# Altium integrated library Linear Technology Operational Amplifiers (LT1000).IntLib: 2280 symbols (part 10 of 79)
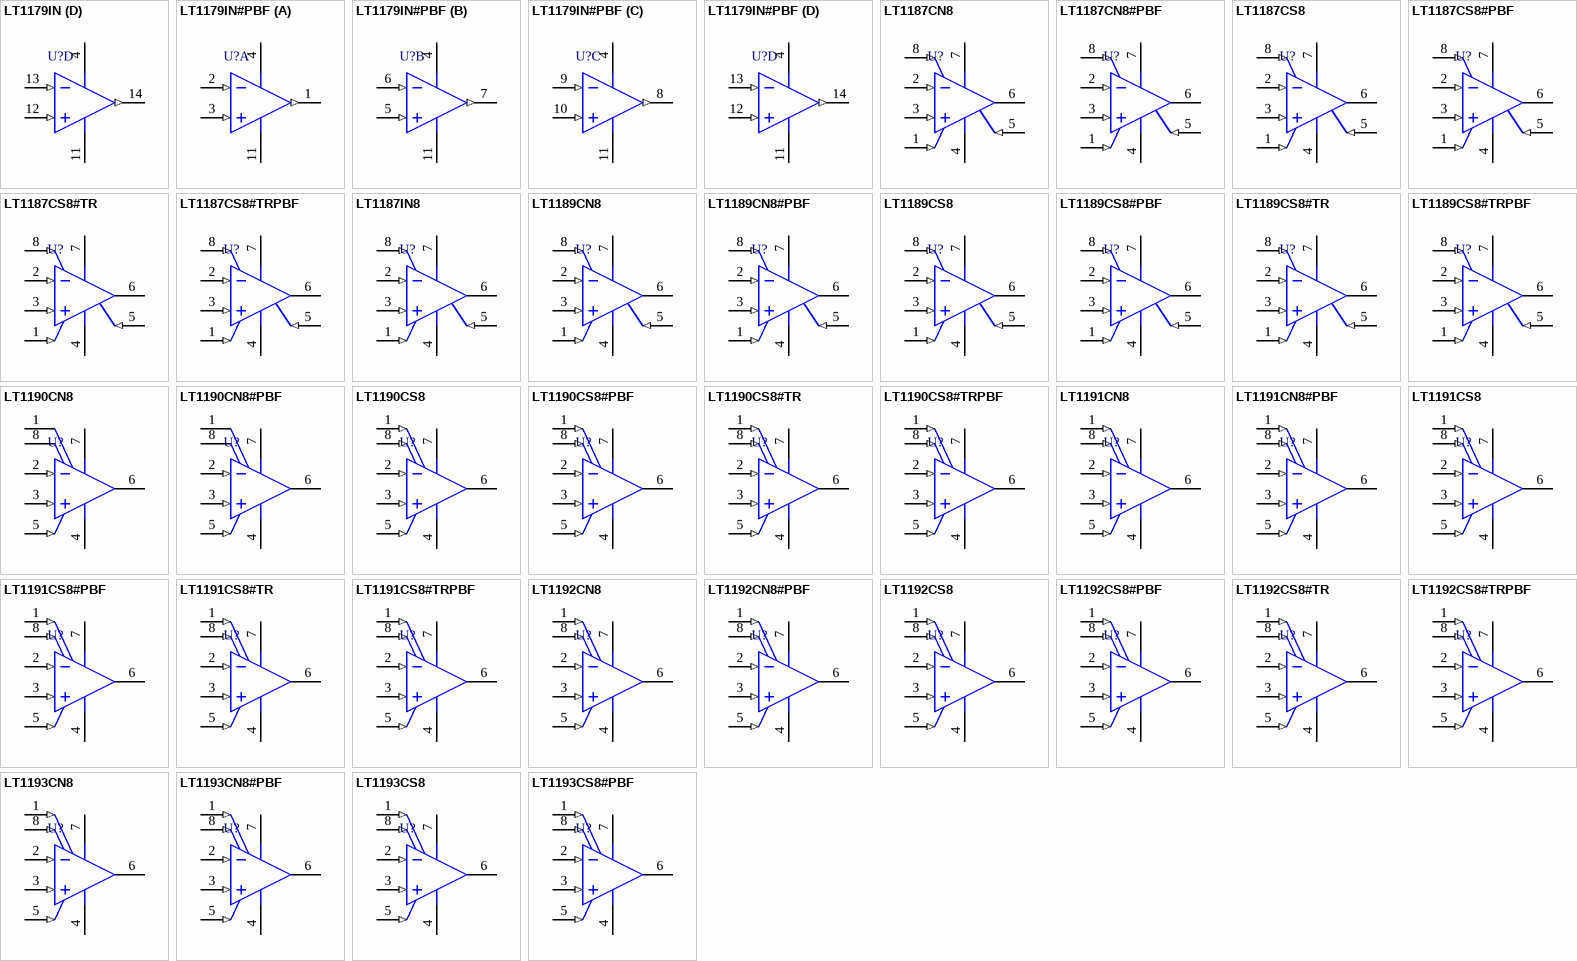
[diagram p114: symbols LT1179IN to LT1193CS8#PBF]

## LT1189CS8#PBF
designator U?
Single Channel, Low Power Video Differential Amplifier, 180 MHz Typical GBW, 220 V/us Typical SR, 4 to 18 V, 8-Pin SOIC (S8-8), Commercial, Pb-Free; Linear Technology Part Number: LT1189; Manufacturer: Linear Technology; PartNumber: LT1189CS8#PBF; Channels (#): 1; GBW (MHz) Typical: 180; Is (mA) Typical: 13; SR (V/us) Typical: 220; Vs Max (V): 18; Vs Min (V): 4; DatasheetVersion: Rev. 0; PackageVersion: Rev G; PackageReference: LT-S8-8; PackageDescription: 8-Pin Plastic Small Outline, Body 4.9 x 3.9 mm, Pitch 1.27 mm; Supplier 1: Digi-Key; Supplier Part Number 1: LT1189CS8#PBF-ND; RoHS: Pb-Free; Type: VIDEO; Vos (mV) Typical: 1; Mounting Technology: Surface Mount; ComponentLink1Description: Manufacturer URL; ComponentLink1URL: http://www.linear.com/; ComponentLink2Description: Datasheet; ComponentLink2URL: http://cds.linear.com/docs/en/datasheet/lt1189.pdf; ComponentLink3Description: Package Specification; ComponentLink3URL: http://cds.linear.com/docs/en/packaging/05081610_G_SO8.pdf
footprint LT-S8-8_N (SOIC, 8-Leads, Body 4.9x3.9mm, Pitch 1.27mm, IPC Medium Density)
footprint LT-S8-8_L (SOIC, 8-Leads, Body 4.9x3.9mm, Pitch 1.27mm, IPC High Density)
footprint LT-S8-8_M (SOIC, 8-Leads, Body 4.9x3.9mm, Pitch 1.27mm, IPC Low Density)
pins: 1 +/REF (in), 2 -IN (in), 3 +IN (in), 4 V- (power), 5 S/D (in), 6 OUT (hiz), 7 V+ (power), 8 -/FB (in)

## LT1189CS8#TR
designator U?
Single Channel, Low Power Video Differential Amplifier, 180 MHz Typical GBW, 220 V/us Typical SR, 4 to 18 V, 8-Pin SOIC (S8-8), Commercial, Reel; Linear Technology Part Number: LT1189; Manufacturer: Linear Technology; PartNumber: LT1189CS8#TR; Channels (#): 1; GBW (MHz) Typical: 180; Is (mA) Typical: 13; SR (V/us) Typical: 220; Vs Max (V): 18; Vs Min (V): 4; DatasheetVersion: Rev. 0; PackageVersion: Rev G; PackageReference: LT-S8-8; PackageDescription: 8-Pin Plastic Small Outline, Body 4.9 x 3.9 mm, Pitch 1.27 mm; Supplier 1: Digi-Key; Supplier Part Number 1: LT1189CS8#TR-ND; Packing: Reel; Type: VIDEO; Vos (mV) Typical: 1; Mounting Technology: Surface Mount; ComponentLink1Description: Manufacturer URL; ComponentLink1URL: http://www.linear.com/; ComponentLink2Description: Datasheet; ComponentLink2URL: http://cds.linear.com/docs/en/datasheet/lt1189.pdf; ComponentLink3Description: Package Specification; ComponentLink3URL: http://cds.linear.com/docs/en/packaging/05081610_G_SO8.pdf
footprint LT-S8-8_N (SOIC, 8-Leads, Body 4.9x3.9mm, Pitch 1.27mm, IPC Medium Density)
footprint LT-S8-8_L (SOIC, 8-Leads, Body 4.9x3.9mm, Pitch 1.27mm, IPC High Density)
footprint LT-S8-8_M (SOIC, 8-Leads, Body 4.9x3.9mm, Pitch 1.27mm, IPC Low Density)
pins: 1 +/REF (in), 2 -IN (in), 3 +IN (in), 4 V- (power), 5 S/D (in), 6 OUT (hiz), 7 V+ (power), 8 -/FB (in)

## LT1189CS8#TRPBF
designator U?
Single Channel, Low Power Video Differential Amplifier, 180 MHz Typical GBW, 220 V/us Typical SR, 4 to 18 V, 8-Pin SOIC (S8-8), Commercial, Pb-Free, Reel; Linear Technology Part Number: LT1189; Manufacturer: Linear Technology; PartNumber: LT1189CS8#TRPBF; Channels (#): 1; GBW (MHz) Typical: 180; Is (mA) Typical: 13; SR (V/us) Typical: 220; Vs Max (V): 18; Vs Min (V): 4; DatasheetVersion: Rev. 0; PackageVersion: Rev G; PackageReference: LT-S8-8; PackageDescription: 8-Pin Plastic Small Outline, Body 4.9 x 3.9 mm, Pitch 1.27 mm; Supplier 1: Digi-Key; Supplier Part Number 1: LT1189CS8#TRPBF-ND; Packing: Reel; RoHS: Pb-Free; Type: VIDEO; Vos (mV) Typical: 1; Mounting Technology: Surface Mount; ComponentLink1Description: Manufacturer URL; ComponentLink1URL: http://www.linear.com/; ComponentLink2Description: Datasheet; ComponentLink2URL: http://cds.linear.com/docs/en/datasheet/lt1189.pdf; ComponentLink3Description: Package Specification; ComponentLink3URL: http://cds.linear.com/docs/en/packaging/05081610_G_SO8.pdf
footprint LT-S8-8_N (SOIC, 8-Leads, Body 4.9x3.9mm, Pitch 1.27mm, IPC Medium Density)
footprint LT-S8-8_L (SOIC, 8-Leads, Body 4.9x3.9mm, Pitch 1.27mm, IPC High Density)
footprint LT-S8-8_M (SOIC, 8-Leads, Body 4.9x3.9mm, Pitch 1.27mm, IPC Low Density)
pins: 1 +/REF (in), 2 -IN (in), 3 +IN (in), 4 V- (power), 5 S/D (in), 6 OUT (hiz), 7 V+ (power), 8 -/FB (in)

## LT1190CN8
designator U?
Single Channel, Color Video Operational Amplifier, +/-5V Supply, 50 MHz Typical GBW, 450 V/us Typical SR, 4 to 18 V, 8-Pin DIP (N8-8), Commercial; Linear Technology Part Number: LT1190; Manufacturer: Linear Technology; PartNumber: LT1190CN8; Channels (#): 1; GBW (MHz) Typical: 50; Is (mA) Typical: 32; SR (V/us) Typical: 450; Vos (mV) Typical: 3; Vs Max (V): 18; Vs Min (V): 4; DatasheetVersion: Rev. A; PackageVersion: Rev I; PackageReference: LT-N8-8; PackageDescription: 8-Lead PDIP, Body 10.16 x 6.48 mm, Pitch 2.54 mm; Supplier 1: Digi-Key; Supplier Part Number 1: LT1190CN8-ND; Type: VFB; Mounting Technology: Surface Mount; ComponentLink1Description: Manufacturer URL; ComponentLink1URL: http://www.linear.com/; ComponentLink2Description: Datasheet; ComponentLink2URL: http://cds.linear.com/docs/en/datasheet/1190fa.pdf; ComponentLink3Description: Package Specification; ComponentLink3URL: http://cds.linear.com/docs/en/packaging/05081510_I_N8.pdf
footprint LT-N8-8 (DIP, 8-Leads, Body 10.16x6.48mm, Pitch 2.54mm)
pins: 1 BAL, 2 -IN (in), 3 +IN (in), 4 V- (power), 5 SHDN (in), 6 OUT (hiz), 7 V+ (power), 8 BAL

## LT1190CN8#PBF
designator U?
Single Channel, Color Video Operational Amplifier, +/-5V Supply, 50 MHz Typical GBW, 450 V/us Typical SR, 4 to 18 V, 8-Pin DIP (N8-8), Commercial, Pb-Free; Linear Technology Part Number: LT1190; Manufacturer: Linear Technology; PartNumber: LT1190CN8#PBF; Channels (#): 1; GBW (MHz) Typical: 50; Is (mA) Typical: 32; SR (V/us) Typical: 450; Vos (mV) Typical: 3; Vs Max (V): 18; Vs Min (V): 4; DatasheetVersion: Rev. A; PackageVersion: Rev I; PackageReference: LT-N8-8; PackageDescription: 8-Lead PDIP, Body 10.16 x 6.48 mm, Pitch 2.54 mm; Supplier 1: Digi-Key; Supplier Part Number 1: LT1190CN8#PBF-ND; Supplier 2: Newark; Supplier Part Number 2: 57M2612; RoHS: Pb-Free; Type: VFB; Mounting Technology: Through Hole; ComponentLink1Description: Manufacturer URL; ComponentLink1URL: http://www.linear.com/; ComponentLink2Description: Datasheet; ComponentLink2URL: http://cds.linear.com/docs/en/datasheet/1190fa.pdf; ComponentLink3Description: Package Specification; ComponentLink3URL: http://cds.linear.com/docs/en/packaging/05081510_I_N8.pdf
footprint LT-N8-8 (DIP, 8-Leads, Body 10.16x6.48mm, Pitch 2.54mm)
pins: 1 BAL, 2 -IN (in), 3 +IN (in), 4 V- (power), 5 SHDN (in), 6 OUT (hiz), 7 V+ (power), 8 BAL

## LT1190CS8
designator U?
Single Channel, Color Video Operational Amplifier, +/-5V Supply, 50 MHz Typical GBW, 450 V/us Typical SR, 4 to 18 V, 8-Pin SOIC (S8-8), Commercial; Linear Technology Part Number: LT1190; Manufacturer: Linear Technology; PartNumber: LT1190CS8; Channels (#): 1; GBW (MHz) Typical: 50; Is (mA) Typical: 32; SR (V/us) Typical: 450; Vos (mV) Typical: 3; Vs Max (V): 18; Vs Min (V): 4; DatasheetVersion: Rev. A; PackageVersion: Rev G; PackageReference: LT-S8-8; PackageDescription: 8-Pin Plastic Small Outline, Body 4.9 x 3.9 mm, Pitch 1.27 mm; Supplier 1: Digi-Key; Supplier Part Number 1: LT1190CS8-ND; Type: VFB; Mounting Technology: Surface Mount; ComponentLink1Description: Manufacturer URL; ComponentLink1URL: http://www.linear.com/; ComponentLink2Description: Datasheet; ComponentLink2URL: http://cds.linear.com/docs/en/datasheet/1190fa.pdf; ComponentLink3Description: Package Specification; ComponentLink3URL: http://cds.linear.com/docs/en/packaging/05081610_G_SO8.pdf
footprint LT-S8-8_N (SOIC, 8-Leads, Body 4.9x3.9mm, Pitch 1.27mm, IPC Medium Density)
footprint LT-S8-8_L (SOIC, 8-Leads, Body 4.9x3.9mm, Pitch 1.27mm, IPC High Density)
footprint LT-S8-8_M (SOIC, 8-Leads, Body 4.9x3.9mm, Pitch 1.27mm, IPC Low Density)
pins: 1 BAL (in), 2 -IN (in), 3 +IN (in), 4 V- (power), 5 SHDN (in), 6 OUT (hiz), 7 V+ (power), 8 BAL (in)

## LT1190CS8#PBF
designator U?
Single Channel, Color Video Operational Amplifier, +/-5V Supply, 50 MHz Typical GBW, 450 V/us Typical SR, 4 to 18 V, 8-Pin SOIC (S8-8), Commercial, Pb-Free; Linear Technology Part Number: LT1190; Manufacturer: Linear Technology; PartNumber: LT1190CS8#PBF; Channels (#): 1; GBW (MHz) Typical: 50; Is (mA) Typical: 32; SR (V/us) Typical: 450; Vos (mV) Typical: 3; Vs Max (V): 18; Vs Min (V): 4; DatasheetVersion: Rev. A; PackageVersion: Rev G; PackageReference: LT-S8-8; PackageDescription: 8-Pin Plastic Small Outline, Body 4.9 x 3.9 mm, Pitch 1.27 mm; Supplier 1: Digi-Key; Supplier Part Number 1: LT1190CS8#PBF-ND; Supplier 2: Farnell; Supplier Part Number 2: 1330593; Supplier 3: Newark; Supplier Part Number 3: 57M2614; RoHS: Pb-Free; Type: VFB; Mounting Technology: Surface Mount; ComponentLink1Description: Manufacturer URL; ComponentLink1URL: http://www.linear.com/; ComponentLink2Description: Datasheet; ComponentLink2URL: http://cds.linear.com/docs/en/datasheet/1190fa.pdf; ComponentLink3Description: Package Specification; ComponentLink3URL: http://cds.linear.com/docs/en/packaging/05081610_G_SO8.pdf
footprint LT-S8-8_N (SOIC, 8-Leads, Body 4.9x3.9mm, Pitch 1.27mm, IPC Medium Density)
footprint LT-S8-8_L (SOIC, 8-Leads, Body 4.9x3.9mm, Pitch 1.27mm, IPC High Density)
footprint LT-S8-8_M (SOIC, 8-Leads, Body 4.9x3.9mm, Pitch 1.27mm, IPC Low Density)
pins: 1 BAL (in), 2 -IN (in), 3 +IN (in), 4 V- (power), 5 SHDN (in), 6 OUT (hiz), 7 V+ (power), 8 BAL (in)

## LT1190CS8#TR
designator U?
Single Channel, Color Video Operational Amplifier, +/-5V Supply, 50 MHz Typical GBW, 450 V/us Typical SR, 4 to 18 V, 8-Pin SOIC (S8-8), Commercial, Reel; Linear Technology Part Number: LT1190; Manufacturer: Linear Technology; PartNumber: LT1190CS8#TR; Channels (#): 1; GBW (MHz) Typical: 50; Is (mA) Typical: 32; SR (V/us) Typical: 450; Vos (mV) Typical: 3; Vs Max (V): 18; Vs Min (V): 4; DatasheetVersion: Rev. A; PackageVersion: Rev G; PackageReference: LT-S8-8; PackageDescription: 8-Pin Plastic Small Outline, Body 4.9 x 3.9 mm, Pitch 1.27 mm; Supplier 1: Digi-Key; Supplier Part Number 1: LT1190CS8#TR-ND; Packing: Reel; Type: VFB; Mounting Technology: Surface Mount; ComponentLink1Description: Manufacturer URL; ComponentLink1URL: http://www.linear.com/; ComponentLink2Description: Datasheet; ComponentLink2URL: http://cds.linear.com/docs/en/datasheet/1190fa.pdf; ComponentLink3Description: Package Specification; ComponentLink3URL: http://cds.linear.com/docs/en/packaging/05081610_G_SO8.pdf
footprint LT-S8-8_N (SOIC, 8-Leads, Body 4.9x3.9mm, Pitch 1.27mm, IPC Medium Density)
footprint LT-S8-8_L (SOIC, 8-Leads, Body 4.9x3.9mm, Pitch 1.27mm, IPC High Density)
footprint LT-S8-8_M (SOIC, 8-Leads, Body 4.9x3.9mm, Pitch 1.27mm, IPC Low Density)
pins: 1 BAL (in), 2 -IN (in), 3 +IN (in), 4 V- (power), 5 SHDN (in), 6 OUT (hiz), 7 V+ (power), 8 BAL (in)

## LT1190CS8#TRPBF
designator U?
Single Channel, Color Video Operational Amplifier, +/-5V Supply, 50 MHz Typical GBW, 450 V/us Typical SR, 4 to 18 V, 8-Pin SOIC (S8-8), Commercial, Pb-Free, Reel; Linear Technology Part Number: LT1190; Manufacturer: Linear Technology; PartNumber: LT1190CS8#TRPBF; Channels (#): 1; GBW (MHz) Typical: 50; Is (mA) Typical: 32; SR (V/us) Typical: 450; Vos (mV) Typical: 3; Vs Max (V): 18; Vs Min (V): 4; DatasheetVersion: Rev. A; PackageVersion: Rev G; PackageReference: LT-S8-8; PackageDescription: 8-Pin Plastic Small Outline, Body 4.9 x 3.9 mm, Pitch 1.27 mm; Supplier 1: Digi-Key; Supplier Part Number 1: LT1190CS8#TRPBF-ND; Packing: Reel; RoHS: Pb-Free; Type: VFB; Mounting Technology: Surface Mount; ComponentLink1Description: Manufacturer URL; ComponentLink1URL: http://www.linear.com/; ComponentLink2Description: Datasheet; ComponentLink2URL: http://cds.linear.com/docs/en/datasheet/1190fa.pdf; ComponentLink3Description: Package Specification; ComponentLink3URL: http://cds.linear.com/docs/en/packaging/05081610_G_SO8.pdf
footprint LT-S8-8_N (SOIC, 8-Leads, Body 4.9x3.9mm, Pitch 1.27mm, IPC Medium Density)
footprint LT-S8-8_L (SOIC, 8-Leads, Body 4.9x3.9mm, Pitch 1.27mm, IPC High Density)
footprint LT-S8-8_M (SOIC, 8-Leads, Body 4.9x3.9mm, Pitch 1.27mm, IPC Low Density)
pins: 1 BAL (in), 2 -IN (in), 3 +IN (in), 4 V- (power), 5 SHDN (in), 6 OUT (hiz), 7 V+ (power), 8 BAL (in)

## LT1191CN8
designator U?
Single Channel, Color Video Operational Amplifier, +/-5V Supply, 90 MHz Typical GBW, 450 V/us Typical SR, 4 to 18 V, 8-Pin DIP (N8-8), Commercial; Linear Technology Part Number: LT1191; Manufacturer: Linear Technology; PartNumber: LT1191CN8; Channels (#): 1; GBW (MHz) Typical: 90; Is (mA) Typical: 32; SR (V/us) Typical: 450; Vs Max (V): 18; Vs Min (V): 4; DatasheetVersion: Rev. A; PackageVersion: Rev I; PackageReference: LT-N8-8; PackageDescription: 8-Lead PDIP, Body 10.16 x 6.48 mm, Pitch 2.54 mm; Supplier 1: Digi-Key; Supplier Part Number 1: LT1191CN8-ND; Type: VFB; Vos (mV) Typical: 1; Mounting Technology: Surface Mount; ComponentLink1Description: Manufacturer URL; ComponentLink1URL: http://www.linear.com/; ComponentLink2Description: Datasheet; ComponentLink2URL: http://cds.linear.com/docs/en/datasheet/1191fa.pdf; ComponentLink3Description: Package Specification; ComponentLink3URL: http://cds.linear.com/docs/en/packaging/05081510_I_N8.pdf
footprint LT-N8-8 (DIP, 8-Leads, Body 10.16x6.48mm, Pitch 2.54mm)
pins: 1 BAL (in), 2 -IN (in), 3 +IN (in), 4 V- (power), 5 SHDN (in), 6 OUT (hiz), 7 V+ (power), 8 BAL (in)

## LT1191CN8#PBF
designator U?
Single Channel, Color Video Operational Amplifier, +/-5V Supply, 90 MHz Typical GBW, 450 V/us Typical SR, 4 to 18 V, 8-Pin DIP (N8-8), Commercial, Pb-Free; Linear Technology Part Number: LT1191; Manufacturer: Linear Technology; PartNumber: LT1191CN8#PBF; Channels (#): 1; GBW (MHz) Typical: 90; Is (mA) Typical: 32; SR (V/us) Typical: 450; Vs Max (V): 18; Vs Min (V): 4; DatasheetVersion: Rev. A; PackageVersion: Rev I; PackageReference: LT-N8-8; PackageDescription: 8-Lead PDIP, Body 10.16 x 6.48 mm, Pitch 2.54 mm; Supplier 1: Digi-Key; Supplier Part Number 1: LT1191CN8#PBF-ND; RoHS: Pb-Free; Type: VFB; Vos (mV) Typical: 1; Mounting Technology: Through Hole; ComponentLink1Description: Manufacturer URL; ComponentLink1URL: http://www.linear.com/; ComponentLink2Description: Datasheet; ComponentLink2URL: http://cds.linear.com/docs/en/datasheet/1191fa.pdf; ComponentLink3Description: Package Specification; ComponentLink3URL: http://cds.linear.com/docs/en/packaging/05081510_I_N8.pdf
footprint LT-N8-8 (DIP, 8-Leads, Body 10.16x6.48mm, Pitch 2.54mm)
pins: 1 BAL (in), 2 -IN (in), 3 +IN (in), 4 V- (power), 5 SHDN (in), 6 OUT (hiz), 7 V+ (power), 8 BAL (in)

## LT1191CS8
designator U?
Single Channel, Color Video Operational Amplifier, +/-5V Supply, 90 MHz Typical GBW, 450 V/us Typical SR, 4 to 18 V, 8-Pin SOIC (S8-8), Commercial; Linear Technology Part Number: LT1191; Manufacturer: Linear Technology; PartNumber: LT1191CS8; Channels (#): 1; GBW (MHz) Typical: 90; Is (mA) Typical: 32; SR (V/us) Typical: 450; Vs Max (V): 18; Vs Min (V): 4; DatasheetVersion: Rev. A; PackageVersion: Rev G; PackageReference: LT-S8-8; PackageDescription: 8-Pin Plastic Small Outline, Body 4.9 x 3.9 mm, Pitch 1.27 mm; Supplier 1: Digi-Key; Supplier Part Number 1: LT1191CS8-ND; Type: VFB; Vos (mV) Typical: 1; Mounting Technology: Surface Mount; ComponentLink1Description: Manufacturer URL; ComponentLink1URL: http://www.linear.com/; ComponentLink2Description: Datasheet; ComponentLink2URL: http://cds.linear.com/docs/en/datasheet/1191fa.pdf; ComponentLink3Description: Package Specification; ComponentLink3URL: http://cds.linear.com/docs/en/packaging/05081610_G_SO8.pdf
footprint LT-S8-8_N (SOIC, 8-Leads, Body 4.9x3.9mm, Pitch 1.27mm, IPC Medium Density)
footprint LT-S8-8_L (SOIC, 8-Leads, Body 4.9x3.9mm, Pitch 1.27mm, IPC High Density)
footprint LT-S8-8_M (SOIC, 8-Leads, Body 4.9x3.9mm, Pitch 1.27mm, IPC Low Density)
pins: 1 BAL (in), 2 -IN (in), 3 +IN (in), 4 V- (power), 5 SHDN (in), 6 OUT (hiz), 7 V+ (power), 8 BAL (in)

## LT1191CS8#PBF
designator U?
Single Channel, Color Video Operational Amplifier, +/-5V Supply, 90 MHz Typical GBW, 450 V/us Typical SR, 4 to 18 V, 8-Pin SOIC (S8-8), Commercial, Pb-Free; Linear Technology Part Number: LT1191; Manufacturer: Linear Technology; PartNumber: LT1191CS8#PBF; Channels (#): 1; GBW (MHz) Typical: 90; Is (mA) Typical: 32; SR (V/us) Typical: 450; Vs Max (V): 18; Vs Min (V): 4; DatasheetVersion: Rev. A; PackageVersion: Rev G; PackageReference: LT-S8-8; PackageDescription: 8-Pin Plastic Small Outline, Body 4.9 x 3.9 mm, Pitch 1.27 mm; Supplier 1: Digi-Key; Supplier Part Number 1: LT1191CS8#PBF-ND; Supplier 2: Farnell; Supplier Part Number 2: 1330594; Supplier 3: Newark; Supplier Part Number 3: 57M2620; RoHS: Pb-Free; Type: VFB; Vos (mV) Typical: 1; Mounting Technology: Surface Mount; ComponentLink1Description: Manufacturer URL; ComponentLink1URL: http://www.linear.com/; ComponentLink2Description: Datasheet; ComponentLink2URL: http://cds.linear.com/docs/en/datasheet/1191fa.pdf; ComponentLink3Description: Package Specification; ComponentLink3URL: http://cds.linear.com/docs/en/packaging/05081610_G_SO8.pdf
footprint LT-S8-8_N (SOIC, 8-Leads, Body 4.9x3.9mm, Pitch 1.27mm, IPC Medium Density)
footprint LT-S8-8_L (SOIC, 8-Leads, Body 4.9x3.9mm, Pitch 1.27mm, IPC High Density)
footprint LT-S8-8_M (SOIC, 8-Leads, Body 4.9x3.9mm, Pitch 1.27mm, IPC Low Density)
pins: 1 BAL (in), 2 -IN (in), 3 +IN (in), 4 V- (power), 5 SHDN (in), 6 OUT (hiz), 7 V+ (power), 8 BAL (in)

## LT1191CS8#TR
designator U?
Single Channel, Color Video Operational Amplifier, +/-5V Supply, 90 MHz Typical GBW, 450 V/us Typical SR, 4 to 18 V, 8-Pin SOIC (S8-8), Commercial, Reel; Linear Technology Part Number: LT1191; Manufacturer: Linear Technology; PartNumber: LT1191CS8#TR; Channels (#): 1; GBW (MHz) Typical: 90; Is (mA) Typical: 32; SR (V/us) Typical: 450; Vs Max (V): 18; Vs Min (V): 4; DatasheetVersion: Rev. A; PackageVersion: Rev G; PackageReference: LT-S8-8; PackageDescription: 8-Pin Plastic Small Outline, Body 4.9 x 3.9 mm, Pitch 1.27 mm; Supplier 1: Digi-Key; Supplier Part Number 1: LT1191CS8#TR-ND; Packing: Reel; Type: VFB; Vos (mV) Typical: 1; Mounting Technology: Surface Mount; ComponentLink1Description: Manufacturer URL; ComponentLink1URL: http://www.linear.com/; ComponentLink2Description: Datasheet; ComponentLink2URL: http://cds.linear.com/docs/en/datasheet/1191fa.pdf; ComponentLink3Description: Package Specification; ComponentLink3URL: http://cds.linear.com/docs/en/packaging/05081610_G_SO8.pdf
footprint LT-S8-8_N (SOIC, 8-Leads, Body 4.9x3.9mm, Pitch 1.27mm, IPC Medium Density)
footprint LT-S8-8_L (SOIC, 8-Leads, Body 4.9x3.9mm, Pitch 1.27mm, IPC High Density)
footprint LT-S8-8_M (SOIC, 8-Leads, Body 4.9x3.9mm, Pitch 1.27mm, IPC Low Density)
pins: 1 BAL (in), 2 -IN (in), 3 +IN (in), 4 V- (power), 5 SHDN (in), 6 OUT (hiz), 7 V+ (power), 8 BAL (in)

## LT1191CS8#TRPBF
designator U?
Single Channel, Color Video Operational Amplifier, +/-5V Supply, 90 MHz Typical GBW, 450 V/us Typical SR, 4 to 18 V, 8-Pin SOIC (S8-8), Commercial, Pb-Free, Reel; Linear Technology Part Number: LT1191; Manufacturer: Linear Technology; PartNumber: LT1191CS8#TRPBF; Channels (#): 1; GBW (MHz) Typical: 90; Is (mA) Typical: 32; SR (V/us) Typical: 450; Vs Max (V): 18; Vs Min (V): 4; DatasheetVersion: Rev. A; PackageVersion: Rev G; PackageReference: LT-S8-8; PackageDescription: 8-Pin Plastic Small Outline, Body 4.9 x 3.9 mm, Pitch 1.27 mm; Supplier 1: Digi-Key; Supplier Part Number 1: LT1191CS8#TRPBF-ND; Packing: Reel; RoHS: Pb-Free; Type: VFB; Vos (mV) Typical: 1; Mounting Technology: Surface Mount; ComponentLink1Description: Manufacturer URL; ComponentLink1URL: http://www.linear.com/; ComponentLink2Description: Datasheet; ComponentLink2URL: http://cds.linear.com/docs/en/datasheet/1191fa.pdf; ComponentLink3Description: Package Specification; ComponentLink3URL: http://cds.linear.com/docs/en/packaging/05081610_G_SO8.pdf
footprint LT-S8-8_N (SOIC, 8-Leads, Body 4.9x3.9mm, Pitch 1.27mm, IPC Medium Density)
footprint LT-S8-8_L (SOIC, 8-Leads, Body 4.9x3.9mm, Pitch 1.27mm, IPC High Density)
footprint LT-S8-8_M (SOIC, 8-Leads, Body 4.9x3.9mm, Pitch 1.27mm, IPC Low Density)
pins: 1 BAL (in), 2 -IN (in), 3 +IN (in), 4 V- (power), 5 SHDN (in), 6 OUT (hiz), 7 V+ (power), 8 BAL (in)

## LT1192CN8
designator U?
Single Channel, Color Video Operational Amplifier, +/-5V Supply, 350 MHz Typical GBW, 450 V/us Typical SR, 4 to 18 V, 8-Pin DIP (N8-8), Commercial; Linear Technology Part Number: LT1192; Manufacturer: Linear Technology; PartNumber: LT1192CN8; Channels (#): 1; GBW (MHz) Typical: 350; Is (mA) Typical: 32; SR (V/us) Typical: 450; Vos (mV) Typical: 0.2; Vs Max (V): 18; Vs Min (V): 4; DatasheetVersion: Rev. A; PackageVersion: Rev I; PackageReference: LT-N8-8; PackageDescription: 8-Lead PDIP, Body 10.16 x 6.48 mm, Pitch 2.54 mm; Supplier 1: Digi-Key; Supplier Part Number 1: LT1192CN8-ND; Type: VFB; Mounting Technology: Surface Mount; ComponentLink1Description: Manufacturer URL; ComponentLink1URL: http://www.linear.com/; ComponentLink2Description: Datasheet; ComponentLink2URL: http://cds.linear.com/docs/en/datasheet/1192fa.pdf; ComponentLink3Description: Package Specification; ComponentLink3URL: http://cds.linear.com/docs/en/packaging/05081510_I_N8.pdf
footprint LT-N8-8 (DIP, 8-Leads, Body 10.16x6.48mm, Pitch 2.54mm)
pins: 1 BAL (in), 2 -IN (in), 3 +IN (in), 4 V- (power), 5 SHDN (in), 6 OUT (hiz), 7 V+ (power), 8 BAL (in)

## LT1192CN8#PBF
designator U?
Single Channel, Color Video Operational Amplifier, +/-5V Supply, 350 MHz Typical GBW, 450 V/us Typical SR, 4 to 18 V, 8-Pin DIP (N8-8), Commercial, Pb-Free; Linear Technology Part Number: LT1192; Manufacturer: Linear Technology; PartNumber: LT1192CN8#PBF; Channels (#): 1; GBW (MHz) Typical: 350; Is (mA) Typical: 32; SR (V/us) Typical: 450; Vos (mV) Typical: 0.2; Vs Max (V): 18; Vs Min (V): 4; DatasheetVersion: Rev. A; PackageVersion: Rev I; PackageReference: LT-N8-8; PackageDescription: 8-Lead PDIP, Body 10.16 x 6.48 mm, Pitch 2.54 mm; Supplier 1: Digi-Key; Supplier Part Number 1: LT1192CN8#PBF-ND; RoHS: Pb-Free; Type: VFB; Mounting Technology: Through Hole; ComponentLink1Description: Manufacturer URL; ComponentLink1URL: http://www.linear.com/; ComponentLink2Description: Datasheet; ComponentLink2URL: http://cds.linear.com/docs/en/datasheet/1192fa.pdf; ComponentLink3Description: Package Specification; ComponentLink3URL: http://cds.linear.com/docs/en/packaging/05081510_I_N8.pdf
footprint LT-N8-8 (DIP, 8-Leads, Body 10.16x6.48mm, Pitch 2.54mm)
pins: 1 BAL (in), 2 -IN (in), 3 +IN (in), 4 V- (power), 5 SHDN (in), 6 OUT (hiz), 7 V+ (power), 8 BAL (in)

## LT1192CS8
designator U?
Single Channel, Color Video Operational Amplifier, +/-5V Supply, 350 MHz Typical GBW, 450 V/us Typical SR, 4 to 18 V, 8-Pin SOIC (S8-8), Commercial; Linear Technology Part Number: LT1192; Manufacturer: Linear Technology; PartNumber: LT1192CS8; Channels (#): 1; GBW (MHz) Typical: 350; Is (mA) Typical: 32; SR (V/us) Typical: 450; Vos (mV) Typical: 0.2; Vs Max (V): 18; Vs Min (V): 4; DatasheetVersion: Rev. A; PackageVersion: Rev G; PackageReference: LT-S8-8; PackageDescription: 8-Pin Plastic Small Outline, Body 4.9 x 3.9 mm, Pitch 1.27 mm; Supplier 1: Digi-Key; Supplier Part Number 1: LT1192CS8-ND; Type: VFB; Mounting Technology: Surface Mount; ComponentLink1Description: Manufacturer URL; ComponentLink1URL: http://www.linear.com/; ComponentLink2Description: Datasheet; ComponentLink2URL: http://cds.linear.com/docs/en/datasheet/1192fa.pdf; ComponentLink3Description: Package Specification; ComponentLink3URL: http://cds.linear.com/docs/en/packaging/05081610_G_SO8.pdf
footprint LT-S8-8_N (SOIC, 8-Leads, Body 4.9x3.9mm, Pitch 1.27mm, IPC Medium Density)
footprint LT-S8-8_L (SOIC, 8-Leads, Body 4.9x3.9mm, Pitch 1.27mm, IPC High Density)
footprint LT-S8-8_M (SOIC, 8-Leads, Body 4.9x3.9mm, Pitch 1.27mm, IPC Low Density)
pins: 1 BAL (in), 2 -IN (in), 3 +IN (in), 4 V- (power), 5 SHDN (in), 6 OUT (hiz), 7 V+ (power), 8 BAL (in)

## LT1192CS8#PBF
designator U?
Single Channel, Color Video Operational Amplifier, +/-5V Supply, 350 MHz Typical GBW, 450 V/us Typical SR, 4 to 18 V, 8-Pin SOIC (S8-8), Commercial, Pb-Free; Linear Technology Part Number: LT1192; Manufacturer: Linear Technology; PartNumber: LT1192CS8#PBF; Channels (#): 1; GBW (MHz) Typical: 350; Is (mA) Typical: 32; SR (V/us) Typical: 450; Vos (mV) Typical: 0.2; Vs Max (V): 18; Vs Min (V): 4; DatasheetVersion: Rev. A; PackageVersion: Rev G; PackageReference: LT-S8-8; PackageDescription: 8-Pin Plastic Small Outline, Body 4.9 x 3.9 mm, Pitch 1.27 mm; Supplier 1: Digi-Key; Supplier Part Number 1: LT1192CS8#PBF-ND; Supplier 2: Newark; Supplier Part Number 2: 57M2626; RoHS: Pb-Free; Type: VFB; Mounting Technology: Surface Mount; ComponentLink1Description: Manufacturer URL; ComponentLink1URL: http://www.linear.com/; ComponentLink2Description: Datasheet; ComponentLink2URL: http://cds.linear.com/docs/en/datasheet/1192fa.pdf; ComponentLink3Description: Package Specification; ComponentLink3URL: http://cds.linear.com/docs/en/packaging/05081610_G_SO8.pdf
footprint LT-S8-8_N (SOIC, 8-Leads, Body 4.9x3.9mm, Pitch 1.27mm, IPC Medium Density)
footprint LT-S8-8_L (SOIC, 8-Leads, Body 4.9x3.9mm, Pitch 1.27mm, IPC High Density)
footprint LT-S8-8_M (SOIC, 8-Leads, Body 4.9x3.9mm, Pitch 1.27mm, IPC Low Density)
pins: 1 BAL (in), 2 -IN (in), 3 +IN (in), 4 V- (power), 5 SHDN (in), 6 OUT (hiz), 7 V+ (power), 8 BAL (in)

## LT1192CS8#TR
designator U?
Single Channel, Color Video Operational Amplifier, +/-5V Supply, 350 MHz Typical GBW, 450 V/us Typical SR, 4 to 18 V, 8-Pin SOIC (S8-8), Commercial, Reel; Linear Technology Part Number: LT1192; Manufacturer: Linear Technology; PartNumber: LT1192CS8#TR; Channels (#): 1; GBW (MHz) Typical: 350; Is (mA) Typical: 32; SR (V/us) Typical: 450; Vos (mV) Typical: 0.2; Vs Max (V): 18; Vs Min (V): 4; DatasheetVersion: Rev. A; PackageVersion: Rev G; PackageReference: LT-S8-8; PackageDescription: 8-Pin Plastic Small Outline, Body 4.9 x 3.9 mm, Pitch 1.27 mm; Supplier 1: Digi-Key; Supplier Part Number 1: LT1192CS8#TR-ND; Packing: Reel; Type: VFB; Mounting Technology: Surface Mount; ComponentLink1Description: Manufacturer URL; ComponentLink1URL: http://www.linear.com/; ComponentLink2Description: Datasheet; ComponentLink2URL: http://cds.linear.com/docs/en/datasheet/1192fa.pdf; ComponentLink3Description: Package Specification; ComponentLink3URL: http://cds.linear.com/docs/en/packaging/05081610_G_SO8.pdf
footprint LT-S8-8_N (SOIC, 8-Leads, Body 4.9x3.9mm, Pitch 1.27mm, IPC Medium Density)
footprint LT-S8-8_L (SOIC, 8-Leads, Body 4.9x3.9mm, Pitch 1.27mm, IPC High Density)
footprint LT-S8-8_M (SOIC, 8-Leads, Body 4.9x3.9mm, Pitch 1.27mm, IPC Low Density)
pins: 1 BAL (in), 2 -IN (in), 3 +IN (in), 4 V- (power), 5 SHDN (in), 6 OUT (hiz), 7 V+ (power), 8 BAL (in)

## LT1192CS8#TRPBF
designator U?
Single Channel, Color Video Operational Amplifier, +/-5V Supply, 350 MHz Typical GBW, 450 V/us Typical SR, 4 to 18 V, 8-Pin SOIC (S8-8), Commercial, Pb-Free, Reel; Linear Technology Part Number: LT1192; Manufacturer: Linear Technology; PartNumber: LT1192CS8#TRPBF; Channels (#): 1; GBW (MHz) Typical: 350; Is (mA) Typical: 32; SR (V/us) Typical: 450; Vos (mV) Typical: 0.2; Vs Max (V): 18; Vs Min (V): 4; DatasheetVersion: Rev. A; PackageVersion: Rev G; PackageReference: LT-S8-8; PackageDescription: 8-Pin Plastic Small Outline, Body 4.9 x 3.9 mm, Pitch 1.27 mm; Supplier 1: Digi-Key; Supplier Part Number 1: LT1192CS8#TRPBF-ND; Packing: Reel; RoHS: Pb-Free; Type: VFB; Mounting Technology: Surface Mount; ComponentLink1Description: Manufacturer URL; ComponentLink1URL: http://www.linear.com/; ComponentLink2Description: Datasheet; ComponentLink2URL: http://cds.linear.com/docs/en/datasheet/1192fa.pdf; ComponentLink3Description: Package Specification; ComponentLink3URL: http://cds.linear.com/docs/en/packaging/05081610_G_SO8.pdf
footprint LT-S8-8_N (SOIC, 8-Leads, Body 4.9x3.9mm, Pitch 1.27mm, IPC Medium Density)
footprint LT-S8-8_L (SOIC, 8-Leads, Body 4.9x3.9mm, Pitch 1.27mm, IPC High Density)
footprint LT-S8-8_M (SOIC, 8-Leads, Body 4.9x3.9mm, Pitch 1.27mm, IPC Low Density)
pins: 1 BAL (in), 2 -IN (in), 3 +IN (in), 4 V- (power), 5 SHDN (in), 6 OUT (hiz), 7 V+ (power), 8 BAL (in)

## LT1193CN8
designator U?
Single Channel, Operational Amplifier, 63 dB AC CMRR at 1MHz, 80 MHz Typical GBW, 500 V/us Typical SR, 4 to 18 V, 8-Pin DIP (N8-8), Commercial; Linear Technology Part Number: LT1193; Manufacturer: Linear Technology; PartNumber: LT1193CN8; Channels (#): 1; GBW (MHz) Typical: 80; Is (mA) Typical: 35; SR (V/us) Typical: 500; Vos (mV) Typical: 2; Vs Max (V): 18; Vs Min (V): 4; DatasheetVersion: Rev. B; PackageVersion: Rev I; PackageReference: LT-N8-8; PackageDescription: 8-Lead PDIP, Body 10.16 x 6.48 mm, Pitch 2.54 mm; Supplier 1: Digi-Key; Supplier Part Number 1: LT1193CN8-ND; Type: VIDEO; Mounting Technology: Surface Mount; ComponentLink1Description: Manufacturer URL; ComponentLink1URL: http://www.linear.com/; ComponentLink2Description: Datasheet; ComponentLink2URL: http://cds.linear.com/docs/en/datasheet/1193fb.pdf; ComponentLink3Description: Package Specification; ComponentLink3URL: http://cds.linear.com/docs/en/packaging/05081510_I_N8.pdf
footprint LT-N8-8 (DIP, 8-Leads, Body 10.16x6.48mm, Pitch 2.54mm)
pins: 1 +/REF (in), 2 -IN (in), 3 +IN (in), 4 V- (power), 5 SHDN (in), 6 OUT (hiz), 7 V+ (power), 8 -/FB (in)

## LT1193CN8#PBF
designator U?
Single Channel, Operational Amplifier, 63 dB AC CMRR at 1MHz, 80 MHz Typical GBW, 500 V/us Typical SR, 4 to 18 V, 8-Pin DIP (N8-8), Commercial, Pb-Free; Linear Technology Part Number: LT1193; Manufacturer: Linear Technology; PartNumber: LT1193CN8#PBF; Channels (#): 1; GBW (MHz) Typical: 80; Is (mA) Typical: 35; SR (V/us) Typical: 500; Vos (mV) Typical: 2; Vs Max (V): 18; Vs Min (V): 4; DatasheetVersion: Rev. B; PackageVersion: Rev I; PackageReference: LT-N8-8; PackageDescription: 8-Lead PDIP, Body 10.16 x 6.48 mm, Pitch 2.54 mm; Supplier 1: Digi-Key; Supplier Part Number 1: LT1193CN8#PBF-ND; Supplier 2: Farnell; Supplier Part Number 2: 9560297; RoHS: Pb-Free; Type: VIDEO; Mounting Technology: Through Hole; ComponentLink1Description: Manufacturer URL; ComponentLink1URL: http://www.linear.com/; ComponentLink2Description: Datasheet; ComponentLink2URL: http://cds.linear.com/docs/en/datasheet/1193fb.pdf; ComponentLink3Description: Package Specification; ComponentLink3URL: http://cds.linear.com/docs/en/packaging/05081510_I_N8.pdf
footprint LT-N8-8 (DIP, 8-Leads, Body 10.16x6.48mm, Pitch 2.54mm)
pins: 1 +/REF (in), 2 -IN (in), 3 +IN (in), 4 V- (power), 5 SHDN (in), 6 OUT (hiz), 7 V+ (power), 8 -/FB (in)

## LT1193CS8
designator U?
Single Channel, Operational Amplifier, 63 dB AC CMRR at 1MHz, 80 MHz Typical GBW, 500 V/us Typical SR, 4 to 18 V, 8-Pin SOIC (S8-8), Commercial; Linear Technology Part Number: LT1193; Manufacturer: Linear Technology; PartNumber: LT1193CS8; Channels (#): 1; GBW (MHz) Typical: 80; Is (mA) Typical: 35; SR (V/us) Typical: 500; Vos (mV) Typical: 2; Vs Max (V): 18; Vs Min (V): 4; DatasheetVersion: Rev. B; PackageVersion: Rev G; PackageReference: LT-S8-8; PackageDescription: 8-Pin Plastic Small Outline, Body 4.9 x 3.9 mm, Pitch 1.27 mm; Supplier 1: Digi-Key; Supplier Part Number 1: LT1193CS8-ND; Type: VIDEO; Mounting Technology: Surface Mount; ComponentLink1Description: Manufacturer URL; ComponentLink1URL: http://www.linear.com/; ComponentLink2Description: Datasheet; ComponentLink2URL: http://cds.linear.com/docs/en/datasheet/1193fb.pdf; ComponentLink3Description: Package Specification; ComponentLink3URL: http://cds.linear.com/docs/en/packaging/05081610_G_SO8.pdf
footprint LT-S8-8_N (SOIC, 8-Leads, Body 4.9x3.9mm, Pitch 1.27mm, IPC Medium Density)
footprint LT-S8-8_L (SOIC, 8-Leads, Body 4.9x3.9mm, Pitch 1.27mm, IPC High Density)
footprint LT-S8-8_M (SOIC, 8-Leads, Body 4.9x3.9mm, Pitch 1.27mm, IPC Low Density)
pins: 1 +/REF (in), 2 -IN (in), 3 +IN (in), 4 V- (power), 5 SHDN (in), 6 OUT (hiz), 7 V+ (power), 8 -/FB (in)

## LT1193CS8#PBF
designator U?
Single Channel, Operational Amplifier, 63 dB AC CMRR at 1MHz, 80 MHz Typical GBW, 500 V/us Typical SR, 4 to 18 V, 8-Pin SOIC (S8-8), Commercial, Pb-Free; Linear Technology Part Number: LT1193; Manufacturer: Linear Technology; PartNumber: LT1193CS8#PBF; Channels (#): 1; GBW (MHz) Typical: 80; Is (mA) Typical: 35; SR (V/us) Typical: 500; Vos (mV) Typical: 2; Vs Max (V): 18; Vs Min (V): 4; DatasheetVersion: Rev. B; PackageVersion: Rev G; PackageReference: LT-S8-8; PackageDescription: 8-Pin Plastic Small Outline, Body 4.9 x 3.9 mm, Pitch 1.27 mm; Supplier 1: Digi-Key; Supplier Part Number 1: LT1193CS8#PBF-ND; Supplier 2: Newark; Supplier Part Number 2: 57M2632; RoHS: Pb-Free; Type: VIDEO; Mounting Technology: Surface Mount; ComponentLink1Description: Manufacturer URL; ComponentLink1URL: http://www.linear.com/; ComponentLink2Description: Datasheet; ComponentLink2URL: http://cds.linear.com/docs/en/datasheet/1193fb.pdf; ComponentLink3Description: Package Specification; ComponentLink3URL: http://cds.linear.com/docs/en/packaging/05081610_G_SO8.pdf
footprint LT-S8-8_N (SOIC, 8-Leads, Body 4.9x3.9mm, Pitch 1.27mm, IPC Medium Density)
footprint LT-S8-8_L (SOIC, 8-Leads, Body 4.9x3.9mm, Pitch 1.27mm, IPC High Density)
footprint LT-S8-8_M (SOIC, 8-Leads, Body 4.9x3.9mm, Pitch 1.27mm, IPC Low Density)
pins: 1 +/REF (in), 2 -IN (in), 3 +IN (in), 4 V- (power), 5 SHDN (in), 6 OUT (hiz), 7 V+ (power), 8 -/FB (in)

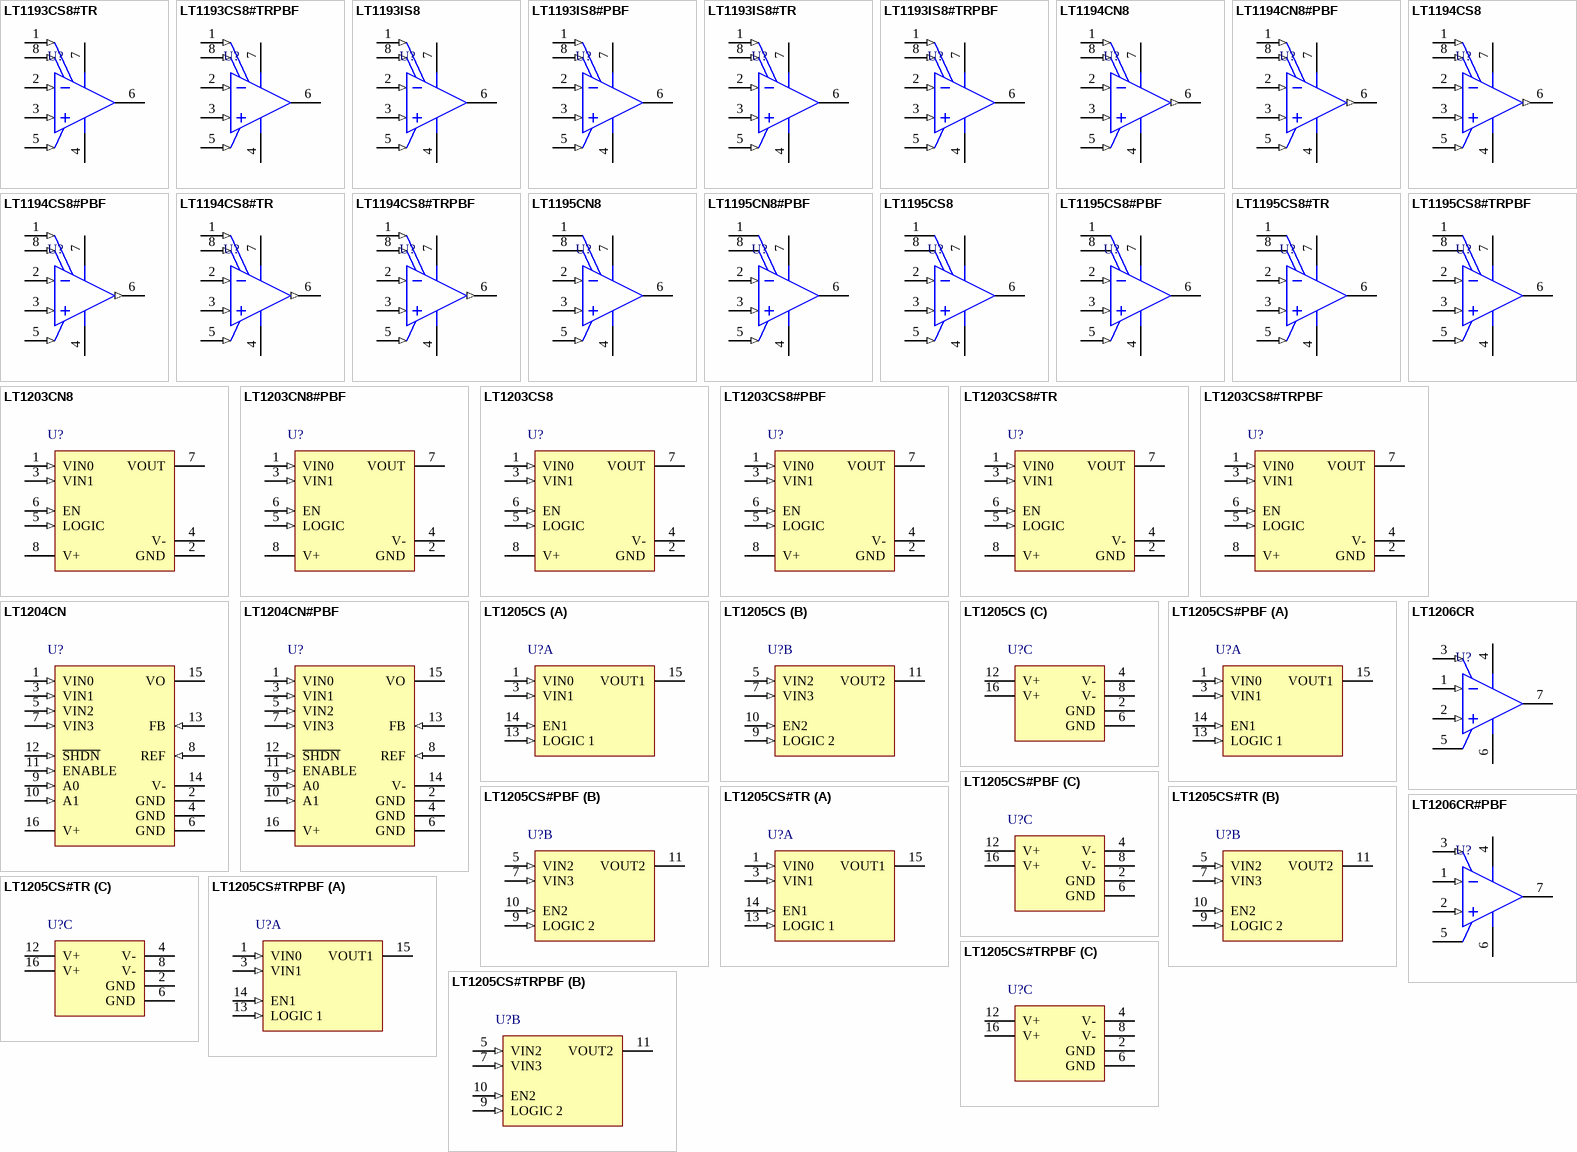
[diagram p13: symbols LT1193CS8#TR to LT1206CR#PBF]

## LT1193CS8#TR
designator U?
Single Channel, Operational Amplifier, 63 dB AC CMRR at 1MHz, 80 MHz Typical GBW, 500 V/us Typical SR, 4 to 18 V, 8-Pin SOIC (S8-8), Commercial, Reel; Linear Technology Part Number: LT1193; Manufacturer: Linear Technology; PartNumber: LT1193CS8#TR; Channels (#): 1; GBW (MHz) Typical: 80; Is (mA) Typical: 35; SR (V/us) Typical: 500; Vos (mV) Typical: 2; Vs Max (V): 18; Vs Min (V): 4; DatasheetVersion: Rev. B; PackageVersion: Rev G; PackageReference: LT-S8-8; PackageDescription: 8-Pin Plastic Small Outline, Body 4.9 x 3.9 mm, Pitch 1.27 mm; Supplier 1: Digi-Key; Supplier Part Number 1: LT1193CS8#TR-ND; Packing: Reel; Type: VIDEO; Mounting Technology: Surface Mount; ComponentLink1Description: Manufacturer URL; ComponentLink1URL: http://www.linear.com/; ComponentLink2Description: Datasheet; ComponentLink2URL: http://cds.linear.com/docs/en/datasheet/1193fb.pdf; ComponentLink3Description: Package Specification; ComponentLink3URL: http://cds.linear.com/docs/en/packaging/05081610_G_SO8.pdf
footprint LT-S8-8_N (SOIC, 8-Leads, Body 4.9x3.9mm, Pitch 1.27mm, IPC Medium Density)
footprint LT-S8-8_L (SOIC, 8-Leads, Body 4.9x3.9mm, Pitch 1.27mm, IPC High Density)
footprint LT-S8-8_M (SOIC, 8-Leads, Body 4.9x3.9mm, Pitch 1.27mm, IPC Low Density)
pins: 1 +/REF (in), 2 -IN (in), 3 +IN (in), 4 V- (power), 5 SHDN (in), 6 OUT (hiz), 7 V+ (power), 8 -/FB (in)

## LT1193CS8#TRPBF
designator U?
Single Channel, Operational Amplifier, 63 dB AC CMRR at 1MHz, 80 MHz Typical GBW, 500 V/us Typical SR, 4 to 18 V, 8-Pin SOIC (S8-8), Commercial, Pb-Free, Reel; Linear Technology Part Number: LT1193; Manufacturer: Linear Technology; PartNumber: LT1193CS8#TRPBF; Channels (#): 1; GBW (MHz) Typical: 80; Is (mA) Typical: 35; SR (V/us) Typical: 500; Vos (mV) Typical: 2; Vs Max (V): 18; Vs Min (V): 4; DatasheetVersion: Rev. B; PackageVersion: Rev G; PackageReference: LT-S8-8; PackageDescription: 8-Pin Plastic Small Outline, Body 4.9 x 3.9 mm, Pitch 1.27 mm; Supplier 1: Digi-Key; Supplier Part Number 1: LT1193CS8#TRPBF-ND; Packing: Reel; RoHS: Pb-Free; Type: VIDEO; Mounting Technology: Surface Mount; ComponentLink1Description: Manufacturer URL; ComponentLink1URL: http://www.linear.com/; ComponentLink2Description: Datasheet; ComponentLink2URL: http://cds.linear.com/docs/en/datasheet/1193fb.pdf; ComponentLink3Description: Package Specification; ComponentLink3URL: http://cds.linear.com/docs/en/packaging/05081610_G_SO8.pdf
footprint LT-S8-8_N (SOIC, 8-Leads, Body 4.9x3.9mm, Pitch 1.27mm, IPC Medium Density)
footprint LT-S8-8_L (SOIC, 8-Leads, Body 4.9x3.9mm, Pitch 1.27mm, IPC High Density)
footprint LT-S8-8_M (SOIC, 8-Leads, Body 4.9x3.9mm, Pitch 1.27mm, IPC Low Density)
pins: 1 +/REF (in), 2 -IN (in), 3 +IN (in), 4 V- (power), 5 SHDN (in), 6 OUT (hiz), 7 V+ (power), 8 -/FB (in)

## LT1193IS8
designator U?
Single Channel, Operational Amplifier, 63 dB AC CMRR at 1MHz, 80 MHz Typical GBW, 500 V/us Typical SR, 4 to 18 V, 8-Pin SOIC (S8-8), Industrial; Linear Technology Part Number: LT1193; Manufacturer: Linear Technology; PartNumber: LT1193IS8; Channels (#): 1; GBW (MHz) Typical: 80; Is (mA) Typical: 35; SR (V/us) Typical: 500; Vos (mV) Typical: 2; Vs Max (V): 18; Vs Min (V): 4; DatasheetVersion: Rev. B; PackageVersion: Rev G; PackageReference: LT-S8-8; PackageDescription: 8-Pin Plastic Small Outline, Body 4.9 x 3.9 mm, Pitch 1.27 mm; Supplier 1: Digi-Key; Supplier Part Number 1: LT1193IS8-ND; Type: VIDEO; Mounting Technology: Surface Mount; ComponentLink1Description: Manufacturer URL; ComponentLink1URL: http://www.linear.com/; ComponentLink2Description: Datasheet; ComponentLink2URL: http://cds.linear.com/docs/en/datasheet/1193fb.pdf; ComponentLink3Description: Package Specification; ComponentLink3URL: http://cds.linear.com/docs/en/packaging/05081610_G_SO8.pdf
footprint LT-S8-8_N (SOIC, 8-Leads, Body 4.9x3.9mm, Pitch 1.27mm, IPC Medium Density)
footprint LT-S8-8_L (SOIC, 8-Leads, Body 4.9x3.9mm, Pitch 1.27mm, IPC High Density)
footprint LT-S8-8_M (SOIC, 8-Leads, Body 4.9x3.9mm, Pitch 1.27mm, IPC Low Density)
pins: 1 +/REF (in), 2 -IN (in), 3 +IN (in), 4 V- (power), 5 SHDN (in), 6 OUT (hiz), 7 V+ (power), 8 -/FB (in)

## LT1193IS8#PBF
designator U?
Single Channel, Operational Amplifier, 63 dB AC CMRR at 1MHz, 80 MHz Typical GBW, 500 V/us Typical SR, 4 to 18 V, 8-Pin SOIC (S8-8), Industrial, Pb-Free; Linear Technology Part Number: LT1193; Manufacturer: Linear Technology; PartNumber: LT1193IS8#PBF; Channels (#): 1; GBW (MHz) Typical: 80; Is (mA) Typical: 35; SR (V/us) Typical: 500; Vos (mV) Typical: 2; Vs Max (V): 18; Vs Min (V): 4; DatasheetVersion: Rev. B; PackageVersion: Rev G; PackageReference: LT-S8-8; PackageDescription: 8-Pin Plastic Small Outline, Body 4.9 x 3.9 mm, Pitch 1.27 mm; Supplier 1: Digi-Key; Supplier Part Number 1: LT1193IS8#PBF-ND; RoHS: Pb-Free; Type: VIDEO; Mounting Technology: Surface Mount; ComponentLink1Description: Manufacturer URL; ComponentLink1URL: http://www.linear.com/; ComponentLink2Description: Datasheet; ComponentLink2URL: http://cds.linear.com/docs/en/datasheet/1193fb.pdf; ComponentLink3Description: Package Specification; ComponentLink3URL: http://cds.linear.com/docs/en/packaging/05081610_G_SO8.pdf
footprint LT-S8-8_N (SOIC, 8-Leads, Body 4.9x3.9mm, Pitch 1.27mm, IPC Medium Density)
footprint LT-S8-8_L (SOIC, 8-Leads, Body 4.9x3.9mm, Pitch 1.27mm, IPC High Density)
footprint LT-S8-8_M (SOIC, 8-Leads, Body 4.9x3.9mm, Pitch 1.27mm, IPC Low Density)
pins: 1 +/REF (in), 2 -IN (in), 3 +IN (in), 4 V- (power), 5 SHDN (in), 6 OUT (hiz), 7 V+ (power), 8 -/FB (in)

## LT1193IS8#TR
designator U?
Single Channel, Operational Amplifier, 63 dB AC CMRR at 1MHz, 80 MHz Typical GBW, 500 V/us Typical SR, 4 to 18 V, 8-Pin SOIC (S8-8), Industrial, Reel; Linear Technology Part Number: LT1193; Manufacturer: Linear Technology; PartNumber: LT1193IS8#TR; Channels (#): 1; GBW (MHz) Typical: 80; Is (mA) Typical: 35; SR (V/us) Typical: 500; Vos (mV) Typical: 2; Vs Max (V): 18; Vs Min (V): 4; DatasheetVersion: Rev. B; PackageVersion: Rev G; PackageReference: LT-S8-8; PackageDescription: 8-Pin Plastic Small Outline, Body 4.9 x 3.9 mm, Pitch 1.27 mm; Supplier 1: Digi-Key; Supplier Part Number 1: LT1193IS8#TR-ND; Packing: Reel; Type: VIDEO; Mounting Technology: Surface Mount; ComponentLink1Description: Manufacturer URL; ComponentLink1URL: http://www.linear.com/; ComponentLink2Description: Datasheet; ComponentLink2URL: http://cds.linear.com/docs/en/datasheet/1193fb.pdf; ComponentLink3Description: Package Specification; ComponentLink3URL: http://cds.linear.com/docs/en/packaging/05081610_G_SO8.pdf
footprint LT-S8-8_N (SOIC, 8-Leads, Body 4.9x3.9mm, Pitch 1.27mm, IPC Medium Density)
footprint LT-S8-8_L (SOIC, 8-Leads, Body 4.9x3.9mm, Pitch 1.27mm, IPC High Density)
footprint LT-S8-8_M (SOIC, 8-Leads, Body 4.9x3.9mm, Pitch 1.27mm, IPC Low Density)
pins: 1 +/REF (in), 2 -IN (in), 3 +IN (in), 4 V- (power), 5 SHDN (in), 6 OUT (hiz), 7 V+ (power), 8 -/FB (in)

## LT1193IS8#TRPBF
designator U?
Single Channel, Operational Amplifier, 63 dB AC CMRR at 1MHz, 80 MHz Typical GBW, 500 V/us Typical SR, 4 to 18 V, 8-Pin SOIC (S8-8), Industrial, Pb-Free, Reel; Linear Technology Part Number: LT1193; Manufacturer: Linear Technology; PartNumber: LT1193IS8#TRPBF; Channels (#): 1; GBW (MHz) Typical: 80; Is (mA) Typical: 35; SR (V/us) Typical: 500; Vos (mV) Typical: 2; Vs Max (V): 18; Vs Min (V): 4; DatasheetVersion: Rev. B; PackageVersion: Rev G; PackageReference: LT-S8-8; PackageDescription: 8-Pin Plastic Small Outline, Body 4.9 x 3.9 mm, Pitch 1.27 mm; Supplier 1: Digi-Key; Supplier Part Number 1: LT1193IS8#TRPBF-ND; Packing: Reel; RoHS: Pb-Free; Type: VIDEO; Mounting Technology: Surface Mount; ComponentLink1Description: Manufacturer URL; ComponentLink1URL: http://www.linear.com/; ComponentLink2Description: Datasheet; ComponentLink2URL: http://cds.linear.com/docs/en/datasheet/1193fb.pdf; ComponentLink3Description: Package Specification; ComponentLink3URL: http://cds.linear.com/docs/en/packaging/05081610_G_SO8.pdf
footprint LT-S8-8_N (SOIC, 8-Leads, Body 4.9x3.9mm, Pitch 1.27mm, IPC Medium Density)
footprint LT-S8-8_L (SOIC, 8-Leads, Body 4.9x3.9mm, Pitch 1.27mm, IPC High Density)
footprint LT-S8-8_M (SOIC, 8-Leads, Body 4.9x3.9mm, Pitch 1.27mm, IPC Low Density)
pins: 1 +/REF (in), 2 -IN (in), 3 +IN (in), 4 V- (power), 5 SHDN (in), 6 OUT (hiz), 7 V+ (power), 8 -/FB (in)

## LT1194CN8
designator U?
Single Channel, Amplitude Limiting Control Operational Amplifier, 350 MHz Typical GBW, 500 V/us Typical SR, 4 to 18 V, 8-Pin DIP (N8-8), Commercial; Linear Technology Part Number: LT1194; Manufacturer: Linear Technology; PartNumber: LT1194CN8; Channels (#): 1; GBW (MHz) Typical: 350; Is (mA) Typical: 35; SR (V/us) Typical: 500; Vs Max (V): 18; Vs Min (V): 4; DatasheetVersion: Rev. A; PackageVersion: Rev I; PackageReference: LT-N8-8; PackageDescription: 8-Lead PDIP, Body 10.16 x 6.48 mm, Pitch 2.54 mm; Supplier 1: Digi-Key; Supplier Part Number 1: LT1194CN8-ND; Type: VIDEO; Vos (mV) Typical: 1; Mounting Technology: Surface Mount; ComponentLink1Description: Manufacturer URL; ComponentLink1URL: http://www.linear.com/; ComponentLink2Description: Datasheet; ComponentLink2URL: http://cds.linear.com/docs/en/datasheet/1194fa.pdf; ComponentLink3Description: Package Specification; ComponentLink3URL: http://cds.linear.com/docs/en/packaging/05081510_I_N8.pdf
footprint LT-N8-8 (DIP, 8-Leads, Body 10.16x6.48mm, Pitch 2.54mm)
pins: 1 BAL/VC (in), 2 -IN (in), 3 +IN (in), 4 V- (power), 5 REF (in), 6 OUT (out), 7 V+ (power), 8 BAL/VC (in)

## LT1194CN8#PBF
designator U?
Single Channel, Amplitude Limiting Control Operational Amplifier, 350 MHz Typical GBW, 500 V/us Typical SR, 4 to 18 V, 8-Pin DIP (N8-8), Commercial, Pb-Free; Linear Technology Part Number: LT1194; Manufacturer: Linear Technology; PartNumber: LT1194CN8#PBF; Channels (#): 1; GBW (MHz) Typical: 350; Is (mA) Typical: 35; SR (V/us) Typical: 500; Vs Max (V): 18; Vs Min (V): 4; DatasheetVersion: Rev. A; PackageVersion: Rev I; PackageReference: LT-N8-8; PackageDescription: 8-Lead PDIP, Body 10.16 x 6.48 mm, Pitch 2.54 mm; Supplier 1: Digi-Key; Supplier Part Number 1: LT1194CN8#PBF-ND; RoHS: Pb-Free; Type: VIDEO; Vos (mV) Typical: 1; Mounting Technology: Through Hole; ComponentLink1Description: Manufacturer URL; ComponentLink1URL: http://www.linear.com/; ComponentLink2Description: Datasheet; ComponentLink2URL: http://cds.linear.com/docs/en/datasheet/1194fa.pdf; ComponentLink3Description: Package Specification; ComponentLink3URL: http://cds.linear.com/docs/en/packaging/05081510_I_N8.pdf
footprint LT-N8-8 (DIP, 8-Leads, Body 10.16x6.48mm, Pitch 2.54mm)
pins: 1 BAL/VC (in), 2 -IN (in), 3 +IN (in), 4 V- (power), 5 REF (in), 6 OUT (out), 7 V+ (power), 8 BAL/VC (in)

## LT1194CS8
designator U?
Single Channel, Amplitude Limiting Control Operational Amplifier, 350 MHz Typical GBW, 500 V/us Typical SR, 4 to 18 V, 8-Pin SOIC (S8-8), Commercial; Linear Technology Part Number: LT1194; Manufacturer: Linear Technology; PartNumber: LT1194CS8; Channels (#): 1; GBW (MHz) Typical: 350; Is (mA) Typical: 35; SR (V/us) Typical: 500; Vs Max (V): 18; Vs Min (V): 4; DatasheetVersion: Rev. A; PackageVersion: Rev G; PackageReference: LT-S8-8; PackageDescription: 8-Pin Plastic Small Outline, Body 4.9 x 3.9 mm, Pitch 1.27 mm; Supplier 1: Digi-Key; Supplier Part Number 1: LT1194CS8-ND; Type: VIDEO; Vos (mV) Typical: 1; Mounting Technology: Surface Mount; ComponentLink1Description: Manufacturer URL; ComponentLink1URL: http://www.linear.com/; ComponentLink2Description: Datasheet; ComponentLink2URL: http://cds.linear.com/docs/en/datasheet/1194fa.pdf; ComponentLink3Description: Package Specification; ComponentLink3URL: http://cds.linear.com/docs/en/packaging/05081610_G_SO8.pdf
footprint LT-S8-8_N (SOIC, 8-Leads, Body 4.9x3.9mm, Pitch 1.27mm, IPC Medium Density)
footprint LT-S8-8_L (SOIC, 8-Leads, Body 4.9x3.9mm, Pitch 1.27mm, IPC High Density)
footprint LT-S8-8_M (SOIC, 8-Leads, Body 4.9x3.9mm, Pitch 1.27mm, IPC Low Density)
pins: 1 BAL/VC (in), 2 -IN (in), 3 +IN (in), 4 V- (power), 5 REF (in), 6 OUT (out), 7 V+ (power), 8 BAL/VC (in)

## LT1194CS8#PBF
designator U?
Single Channel, Amplitude Limiting Control Operational Amplifier, 350 MHz Typical GBW, 500 V/us Typical SR, 4 to 18 V, 8-Pin SOIC (S8-8), Commercial, Pb-Free; Linear Technology Part Number: LT1194; Manufacturer: Linear Technology; PartNumber: LT1194CS8#PBF; Channels (#): 1; GBW (MHz) Typical: 350; Is (mA) Typical: 35; SR (V/us) Typical: 500; Vs Max (V): 18; Vs Min (V): 4; DatasheetVersion: Rev. A; PackageVersion: Rev G; PackageReference: LT-S8-8; PackageDescription: 8-Pin Plastic Small Outline, Body 4.9 x 3.9 mm, Pitch 1.27 mm; Supplier 1: Digi-Key; Supplier Part Number 1: LT1194CS8#PBF-ND; RoHS: Pb-Free; Type: VIDEO; Vos (mV) Typical: 1; Mounting Technology: Surface Mount; ComponentLink1Description: Manufacturer URL; ComponentLink1URL: http://www.linear.com/; ComponentLink2Description: Datasheet; ComponentLink2URL: http://cds.linear.com/docs/en/datasheet/1194fa.pdf; ComponentLink3Description: Package Specification; ComponentLink3URL: http://cds.linear.com/docs/en/packaging/05081610_G_SO8.pdf
footprint LT-S8-8_N (SOIC, 8-Leads, Body 4.9x3.9mm, Pitch 1.27mm, IPC Medium Density)
footprint LT-S8-8_L (SOIC, 8-Leads, Body 4.9x3.9mm, Pitch 1.27mm, IPC High Density)
footprint LT-S8-8_M (SOIC, 8-Leads, Body 4.9x3.9mm, Pitch 1.27mm, IPC Low Density)
pins: 1 BAL/VC (in), 2 -IN (in), 3 +IN (in), 4 V- (power), 5 REF (in), 6 OUT (out), 7 V+ (power), 8 BAL/VC (in)

## LT1194CS8#TR
designator U?
Single Channel, Amplitude Limiting Control Operational Amplifier, 350 MHz Typical GBW, 500 V/us Typical SR, 4 to 18 V, 8-Pin SOIC (S8-8), Commercial, Reel; Linear Technology Part Number: LT1194; Manufacturer: Linear Technology; PartNumber: LT1194CS8#TR; Channels (#): 1; GBW (MHz) Typical: 350; Is (mA) Typical: 35; SR (V/us) Typical: 500; Vs Max (V): 18; Vs Min (V): 4; DatasheetVersion: Rev. A; PackageVersion: Rev G; PackageReference: LT-S8-8; PackageDescription: 8-Pin Plastic Small Outline, Body 4.9 x 3.9 mm, Pitch 1.27 mm; Supplier 1: Digi-Key; Supplier Part Number 1: LT1194CS8#TR-ND; Packing: Reel; Type: VIDEO; Vos (mV) Typical: 1; Mounting Technology: Surface Mount; ComponentLink1Description: Manufacturer URL; ComponentLink1URL: http://www.linear.com/; ComponentLink2Description: Datasheet; ComponentLink2URL: http://cds.linear.com/docs/en/datasheet/1194fa.pdf; ComponentLink3Description: Package Specification; ComponentLink3URL: http://cds.linear.com/docs/en/packaging/05081610_G_SO8.pdf
footprint LT-S8-8_N (SOIC, 8-Leads, Body 4.9x3.9mm, Pitch 1.27mm, IPC Medium Density)
footprint LT-S8-8_L (SOIC, 8-Leads, Body 4.9x3.9mm, Pitch 1.27mm, IPC High Density)
footprint LT-S8-8_M (SOIC, 8-Leads, Body 4.9x3.9mm, Pitch 1.27mm, IPC Low Density)
pins: 1 BAL/VC (in), 2 -IN (in), 3 +IN (in), 4 V- (power), 5 REF (in), 6 OUT (out), 7 V+ (power), 8 BAL/VC (in)

## LT1194CS8#TRPBF
designator U?
Single Channel, Amplitude Limiting Control Operational Amplifier, 350 MHz Typical GBW, 500 V/us Typical SR, 4 to 18 V, 8-Pin SOIC (S8-8), Commercial, Pb-Free, Reel; Linear Technology Part Number: LT1194; Manufacturer: Linear Technology; PartNumber: LT1194CS8#TRPBF; Channels (#): 1; GBW (MHz) Typical: 350; Is (mA) Typical: 35; SR (V/us) Typical: 500; Vs Max (V): 18; Vs Min (V): 4; DatasheetVersion: Rev. A; PackageVersion: Rev G; PackageReference: LT-S8-8; PackageDescription: 8-Pin Plastic Small Outline, Body 4.9 x 3.9 mm, Pitch 1.27 mm; Supplier 1: Digi-Key; Supplier Part Number 1: LT1194CS8#TRPBF-ND; Packing: Reel; RoHS: Pb-Free; Type: VIDEO; Vos (mV) Typical: 1; Mounting Technology: Surface Mount; ComponentLink1Description: Manufacturer URL; ComponentLink1URL: http://www.linear.com/; ComponentLink2Description: Datasheet; ComponentLink2URL: http://cds.linear.com/docs/en/datasheet/1194fa.pdf; ComponentLink3Description: Package Specification; ComponentLink3URL: http://cds.linear.com/docs/en/packaging/05081610_G_SO8.pdf
footprint LT-S8-8_N (SOIC, 8-Leads, Body 4.9x3.9mm, Pitch 1.27mm, IPC Medium Density)
footprint LT-S8-8_L (SOIC, 8-Leads, Body 4.9x3.9mm, Pitch 1.27mm, IPC High Density)
footprint LT-S8-8_M (SOIC, 8-Leads, Body 4.9x3.9mm, Pitch 1.27mm, IPC Low Density)
pins: 1 BAL/VC (in), 2 -IN (in), 3 +IN (in), 4 V- (power), 5 REF (in), 6 OUT (out), 7 V+ (power), 8 BAL/VC (in)